# EAGLE library part TPS40193 (library tps40193)
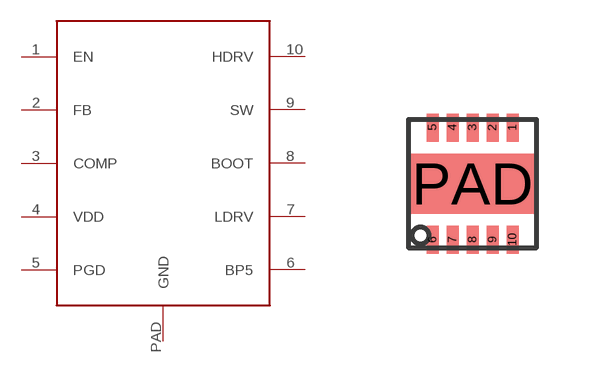
[diagram p0: symbol with the pads of SON; footprint SON]

Designator prefix -

## TPS40193  [SON]
1  EN
2  FB
3  COMP
4  VDD
5  PGD
6  BP5
7  LDRV
8  BOOT
9  SW
10  HDRV
PAD  GND

## Footprint SON (pad centres in mm)
smd 0.3 x 0.7: 1 1,1.4; 2 0.5,1.4; 3 0,1.4; 4 -0.5,1.4; 5 -1,1.4; 6 -1,-1.4; 7 -0.5,-1.4; 8 0,-1.4; 9 0.5,-1.4; 10 1,-1.4
smd 3.3 x 1.5: PAD 0,0